# EAGLE library part JTAG_MINI (library jonsowman)
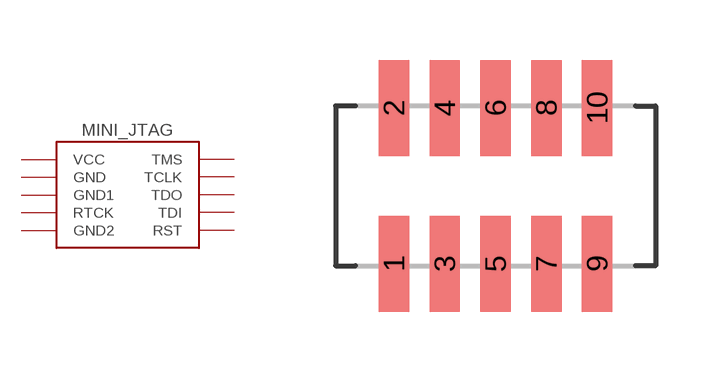
[diagram p9: symbol with the pads of JTAG_MINI; footprint JTAG_MINI]

Designator prefix -

## JTAG_MINI  [JTAG_MINI]
1  VCC
2  TMS
3  GND
4  TCLK
5  GND1
6  TDO
7  RTCK
8  TDI
9  GND2
10  RST

## Footprint JTAG_MINI (pad centres in mm)
smd 0.76 x 2.4: 1 -2.54,-1.95; 2 -2.54,1.95; 3 -1.27,-1.95; 4 -1.27,1.95; 5 0,-1.95; 6 0,1.95; 7 1.27,-1.95; 8 1.27,1.95; 9 2.54,-1.95; 10 2.54,1.95